# EAGLE library part L63XX (library l63xx)
L63 XX ,Half Bridge Speed MOSFET or IGBT Driver,STMelectronics
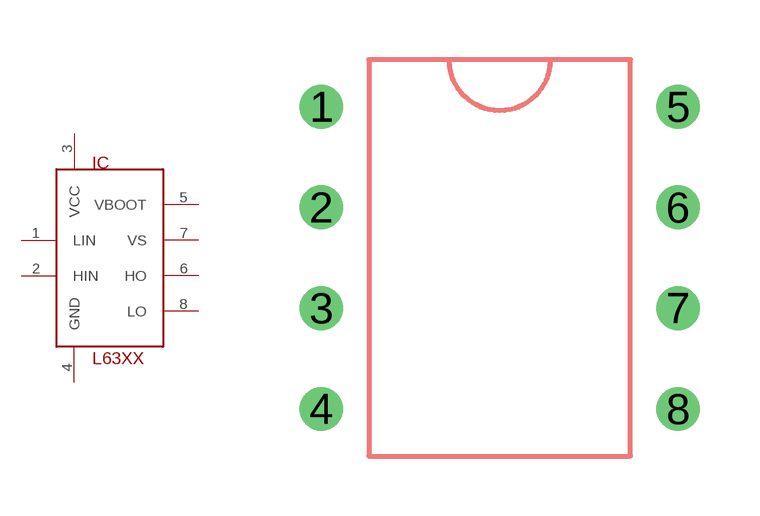
[diagram p0: symbol with the pads of L63XX; footprint L63XX]

Designator prefix IC

## L63XXDIP-8  [L63XX]
1  LIN  in
2  HIN  in
3  VCC  pwr
4  GND  pwr
5  VBOOT  pwr
6  HO  out
7  VS  out
8  LO  out

## Footprint L63XX (pad centres in mm)
L63xx DIP-8,Half Bridge Driver,STMicroelectronics
drill 0.6: 1 -4.5,3.81; 2 -4.5,1.27; 3 -4.5,-1.27; 4 -4.5,-3.81; 5 4.5,3.81; 6 4.5,1.27; 7 4.5,-1.27; 8 4.5,-3.81